# Altium integrated library SS34-E3&slash_57T.IntLib: 2 symbols
Pins are listed as number, name and electrical type; pins without a type are passive.

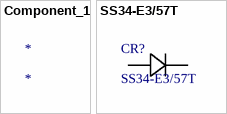
[diagram p0: symbols Component_1 to SS34-E3/57T]

## Component_1
designator *

## SS34-E3/57T
designator CR?
No Description Available; Mfr_Name: Vishay; Type: DEV; Copyright: Copyright (C) 2022 Ultra Librarian. All rights reserved.; Manufacturer_Part_Number: SS34-E3/57T; Digi-Key_Part_Number_1: SS34-E3/57TGICT-ND; Digi-Key_Part_Number_2: SS34-E3/57TGITR-ND; RefDes: RefDes
footprint DIODE_DO214AB-M
pins: 1, 2